# Altium schematic symbol library CC0603KRX7R9BB104.SchLib: 1 symbol
Pins are listed as number, name and electrical type; pins without a type are passive.

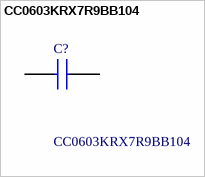
[diagram p0: symbol CC0603KRX7R9BB104]

## CC0603KRX7R9BB104
designator C?
0.1 F +/-10% 50V Ceramic Capacitor X7R 0603 (1608 Metric); Manufacturer_Name: Yageo Group; Geometry.Height: 0.9mm; Mouser Part Number: 603-CC603KRX7R9BB104; Mouser Price/Stock: https://www.mouser.co.uk/ProductDetail/YAGEO/CC0603KRX7R9BB104?qs=vTakOoo5QyLvVCYM2ge8LQ%3D%3D; Manufacturer_Part_Number: CC0603KRX7R9BB104; Datasheet Link: https://www.digikey.com/en/products/detail/yageo/CC0603KRX7R9BB104/2103082
footprint CAPC1608X90N
pins: 1, 2